# EAGLE library part RESISTOR_4 (library passive)
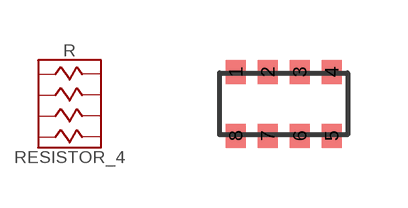
[diagram p0: symbol with the pads of CAT16-J4; footprint CAT16-J4]

Designator prefix R

## RESISTOR_4  [CAT16-J4]
1  1A
2  2A
3  3A
4  4A
5  4B
6  3B
7  2B
8  1B

## Footprint CAT16-J4 (pad centres in mm)
smd 0.5 x 0.6: 1 -1.2,0.8; 2 -0.4,0.8; 3 0.4,0.8; 4 1.2,0.8; 5 1.2,-0.8; 6 0.4,-0.8; 7 -0.4,-0.8; 8 -1.2,-0.8